# Altium footprint library TEXT_TEST.PcbLib: 1 footprints
Each footprint in its own frame and in the unit in brackets; x right, y up, seen from the top. Pads: shape width x height; smd on the part's side, far side on the other; paste and mask are expansions set on the pad; w line width, h text height; cw(c..) or ccw(c..) is an arc to the next point about the centre after c.
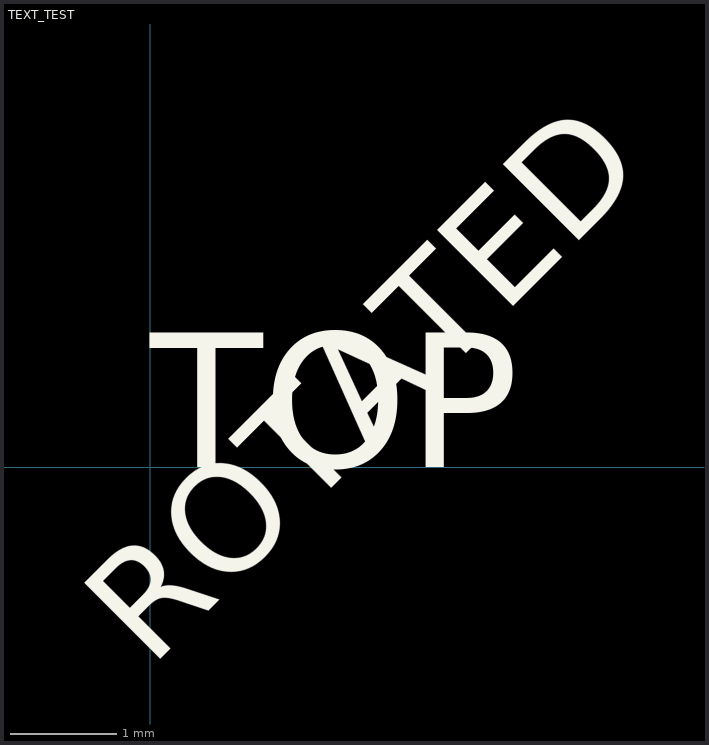
[diagram p0: the footprint, top view; thin cyan lines are the x and y axes]

## TEXT_TEST [mm] "Text objects with various properties"
Top Overlay:
  text "ROTATED" at 0,-1.905 h1.02
  text "TOP" at 0,0 h1.27
Bottom Overlay:
  text "MIRROR" at 0,-3.81 h1.02